# Altium footprint library PcbLib.PcbLib: 28 footprints (part 2 of 2)
Each footprint in its own frame and in the unit in brackets; x right, y up, seen from the top. Pads: shape width x height; smd on the part's side, far side on the other; paste and mask are expansions set on the pad; w line width, h text height; cw(c..) or ccw(c..) is an arc to the next point about the centre after c.
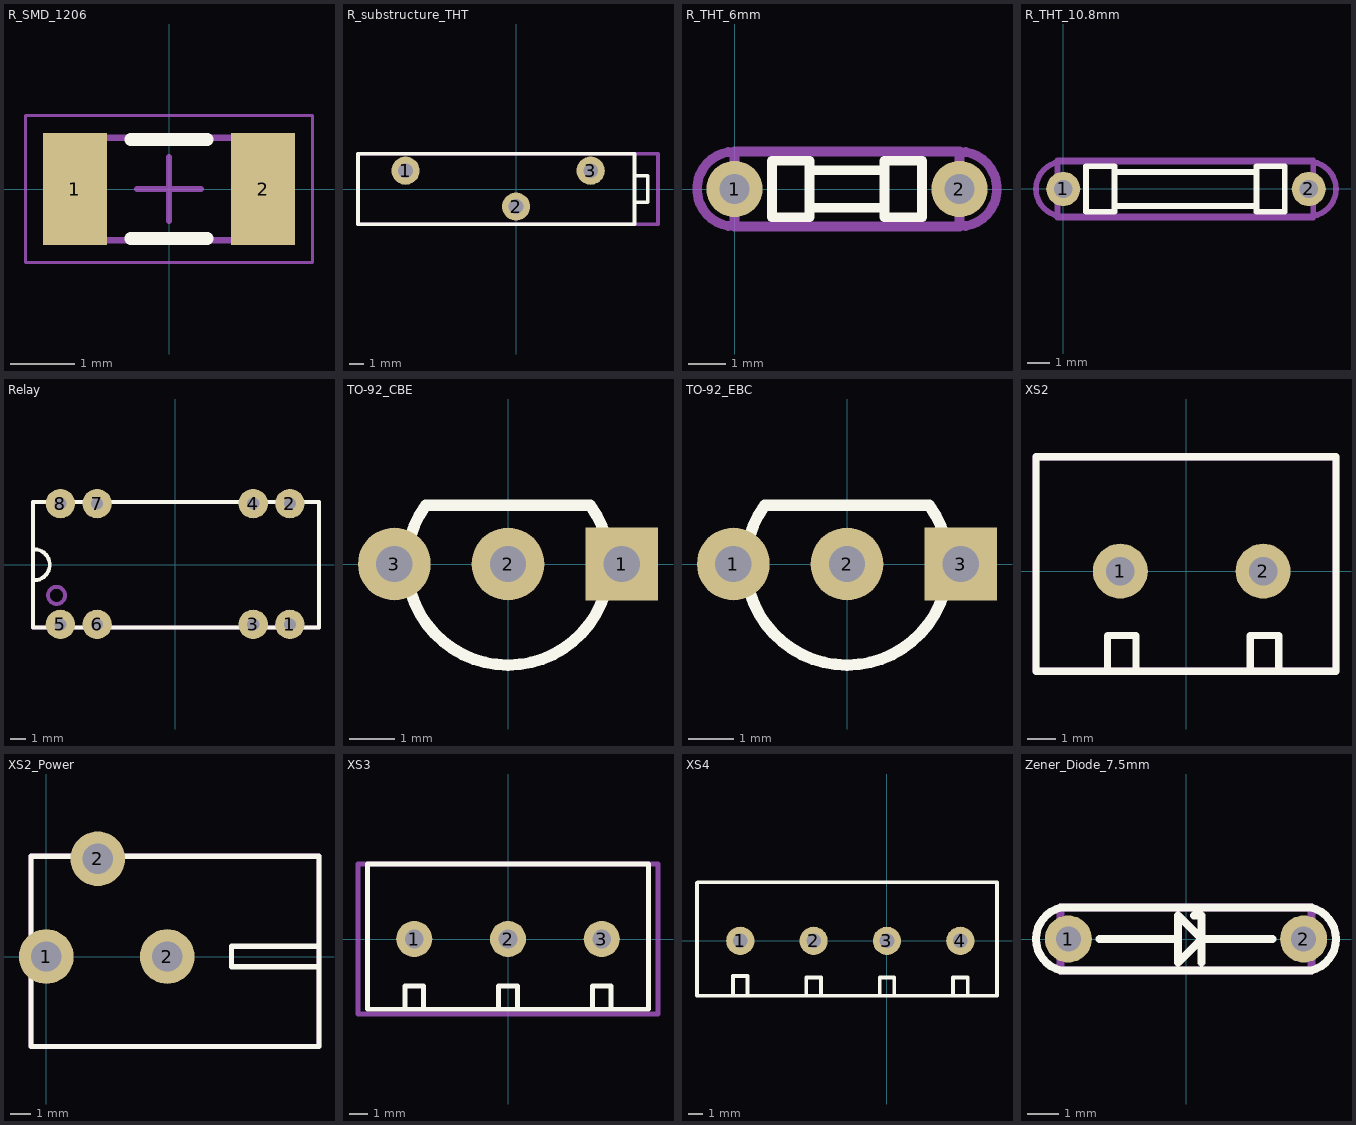
[diagram p1: the footprints below, top view; thin cyan lines are the x and y axes]

## R_SMD_1206 [mm] "Chip Capacitor, 2-Leads, Body 3,10x1,60mm, IPC Medium Density"
height 0.55
pads (2):
  rect 1x1.75 smd: 1(-1.475,0) 2(1.475,0)
Top Overlay:
  lines w0.2: -0.6,-0.775 0.6,-0.775 ; -0.6,0.775 0.6,0.775
Mechanical 13:
  lines w0.1: -1.55,-0.8 -1.55,0.8 1.55,0.8 1.55,-0.8 -1.55,-0.8
Mechanical 15:
  lines w0.05: -2.25,-1.15 -2.25,1.15 2.25,1.15 2.25,-1.15 -2.25,-1.15
  lines w0.1: -0.5,0 0.5,0 ; 0,-0.5 0,0.5
3D body "CAPC3116X06N.step": height 0.55, standoff 0, extent -1.55,-0.8 1.55,0.8

## R_substructure_THT [mm]
pads (3):
  round 1.924 hole 1: 1(-7.55,1.25) 2(0,-1.2) 3(5.1,1.25)
Top Overlay:
  lines w0.254: -10.8,-2.4 8.1,-2.4 8.1,2.4 -10.8,2.4 -10.8,-2.4 ; 8.1,-0.9 9,-0.9 9,0.9 8.1,0.9 8.1,-0.9
Mechanical 1:
  lines w0.254: -10.8,-2.4 9.7,-2.4 9.7,2.4 -10.8,2.4 -10.8,-2.4
3D body "0.75inch Rectangular (19 mm) Multi-Turn Cermet Trimmer.stp": height 6.65, standoff -2.75, extent -10.75,-2.4 9.746,2.4

## R_THT_6mm [mm]
pads (2):
  round 1.5 hole 0.8: 1(0,0) 2(6,0)
Top Overlay:
  lines w0.254: 2,-0.5 4,-0.5 ; 2,0.5 4,0.5 ; 1,-0.75 2,-0.75 2,0.75 1,0.75 1,-0.75 ; 4,-0.75 4,0.75 5,0.75 5,-0.75 4,-0.75
Mechanical 1:
  lines w0.254: 0,-1 6,-1 6,1 0,1 0,-1
Mechanical 13:
  lines w0.254: 0,-1 cw(c0,0) 0,1 6,1 cw(c6,0) 6,-1 0,-1
3D body "rcil-h_p6_l3-5_d1-75_h1-75.stp": height 3.76, standoff -2, extent -0.225,-0.879 6.225,0.879

## R_THT_10.8mm [mm]
pads (2):
  round 1.5 hole 0.8: 1(0,0) 2(10.8,0)
Top Overlay:
  lines w0.254: 2.25,-0.75 8.5,-0.75 ; 2.25,0.75 8.5,0.75 ; 1,-1 2.25,-1 2.25,1 1,1 1,-1 ; 8.5,-1 8.5,1 9.75,1 9.75,-1 8.5,-1
Mechanical 1:
  lines w0.254: -0.25,-1.25 11,-1.25 11,1.25 -0.25,1.25 -0.25,-1.25
Mechanical 13:
  lines w0.254: 0,-1.2 cw(c0,0) 0,1.2 10.8,1.2 cw(c10.8,0) 10.8,-1.2 0,-1.2
3D body "axial_resistor_L6.8_D2.6_PinD0.6_Pitch10.8_brown.step": height 4.3, standoff -1.3, extent -0.3,-1.295 11.1,1.293

## Relay [mm]
pads (8):
  round 1.924 hole 0.8: 1(7.5,-3.9) 2(7.5,4) 3(5.1,-3.9) 4(5.1,4) 5(-7.5,-3.9) 6(-5.1,-3.9) 7(-5.1,4) 8(-7.5,4)
Top Overlay:
  lines w0.254: -9.2,-1.005 ccw(c-9.2,0) -9.2,1.005 ; -9.3,-4.1 9.4,-4.1 9.4,4.1 -9.3,4.1 -9.3,-4.1
Mechanical 1:
  circle w0.254: c-7.75,-2 r0.559
  lines w0.254: -9.3,-4.1 9.4,-4.1 ; -9.3,-4.1 -9.3,4.1 ; -9.3,-4.1 9.4,-4.1 ; -9.3,-4.1 -9.3,4.1 ; -9.3,4.1 9.4,4.1 ; -9.3,4.1 9.4,4.1 ; 9.4,-4.1 9.4,4.1 ; 9.4,-4.1 9.4,4.1
3D body "Reed Relay.step": height 2, standoff -7.5, extent -9.353,-4.055 9.362,4.055

## TO-92_CBE [mm]
pads (3):
  rect 1.6x1.6 hole 0.8: 1(2.5,0)
  round 1.6 hole 0.8: 2(0,0) 3(-2.5,0)
Top Overlay:
  lines w0.254: -1.811,1.293 ccw(c0,0) 1.811,1.293 -1.811,1.293
3D body "TO-92 Formed Leads.stp": height 10.08, standoff -1.5, extent -2.77,-2.35 2.77,1.21

## TO-92_EBC [mm]
pads (3):
  round 1.6 hole 0.8: 1(-2.5,0) 2(0,0)
  rect 1.6x1.6 hole 0.8: 3(2.5,0)
Top Overlay:
  lines w0.254: -1.811,1.293 ccw(c0,0) 1.811,1.293 -1.811,1.293
3D body "TO-92 Formed Leads.stp": height 10.08, standoff -1.5, extent -2.77,-2.35 2.77,1.21

## XS2 [mm]
pads (2):
  round 1.924 hole 1: 1(-2.3,0) 2(2.7,0)
Top Overlay:
  lines w0.254: -5.25,-3.5 5.25,-3.5 5.25,4 -5.25,4 -5.25,-3.5 ; -2.75,-3.5 -2.75,-2.25 -1.75,-2.25 -1.75,-3.5 -2.75,-3.5 ; 2.25,-3.5 2.25,-2.25 3.25,-2.25 3.25,-3.5 2.25,-3.5
Mechanical 1:
  lines w0.254: -5.25,-3.5 5.25,-3.5 5.25,4 -5.25,4 -5.25,-3.5
3D body "KF301-5-2P_blue.step": height 10.46, standoff -3.7, extent -5.175,-3.6 5.175,4

## XS2_Power [mm]
pads (3):
  round 2.7 hole 1.5: 1(0,0) 2(2.54,4.826) 2(5.969,0)
Top Overlay:
  lines w0.254: -0.762,-4.445 13.462,-4.445 13.462,4.953 -0.762,4.953 -0.762,-4.445 ; 9.144,-0.508 13.462,-0.508 13.462,0.508 9.144,0.508 9.144,-0.508
Mechanical 1:
  lines w0.254: -0.762,-4.445 13.462,-4.445 13.462,4.953 -0.762,4.953 -0.762,-4.445
3D body "DC_Power_Jack_PCB_Mounted_2.1mm.stp": height 11, standoff -2.6, extent -0.75,-4.497 13.45,4.953

## XS3 [mm]
pads (3):
  round 1.924 hole 1: 1(-5,0) 2(0,0) 3(5,0)
Top Overlay:
  lines w0.254: -7.5,-3.75 7.5,-3.75 7.5,4 -7.5,4 -7.5,-3.75 ; -5.5,-3.75 -4.5,-3.75 -4.5,-2.5 -5.5,-2.5 -5.5,-3.75 ; -0.5,-3.75 0.5,-3.75 0.5,-2.5 -0.5,-2.5 -0.5,-3.75 ; 4.5,-3.75 5.5,-3.75 5.5,-2.5 4.5,-2.5 4.5,-3.75
Mechanical 1:
  lines w0.254: -8,-4 8,-4 8,4 -8,4 -8,-4
3D body "KF301-3P_v1_red.step": height 10.46, standoff -3.7, extent -7.85,-3.6 7.5,4

## XS4 [mm]
pads (4):
  round 1.924 hole 1: 1(-10,0) 2(-5,0) 3(0,0) 4(5,0)
Top Overlay:
  lines w0.254: -10.5,-3.65 -10.5,-2.4 -9.5,-2.4 -9.5,-3.65 ; -12.95,-3.75 -12.95,3.95 -12.9,4 -7.5,4 7.5,4 7.5,-3.75 -7.5,-3.75 -12.95,-3.75 ; -5.5,-3.75 -5.5,-2.5 -4.5,-2.5 -4.5,-3.75 -5.5,-3.75 ; -0.5,-3.75 -0.5,-2.5 0.5,-2.5 0.5,-3.75 -0.5,-3.75 ; 4.5,-3.75 4.5,-2.5 5.5,-2.5 5.5,-3.75 4.5,-3.75
3D body "KF301-5-4P_v1_red.step": height 2.7, standoff -11.46, extent -12.85,-3.6 7.5,4

## Zener_Diode_7.5mm [mm]
pads (2):
  round 1.5 hole 0.8: 1(-3.75,0) 2(3.75,0)
Top Overlay:
  lines w0.254: -4,0.25 -3.75,0 ; -2.75,0 -0.25,0 ; 0.25,0.75 0.5,0.75 0.5,0 ; 0.5,-0.75 0.5,0 ; 2.75,0 0.5,0 ; 0.5,0 -0.25,0.75 -0.25,-0.75 0.5,0 ; -4,-1 cw(c-3.75,0) -4,1 4,1 cw(c3.75,0) 4,-1 -4,-1
Mechanical 1:
  lines w0.254: -4,-1 4,-1 4,1 -4,1 -4,-1
3D body "DO-35.step": height 1, standoff -4.01, extent -4.06,-0.997 4.06,1